# Altium footprint library 1000uF_100V_18x41mm.PcbLib: 1 footprints
Each footprint in its own frame and in the unit in brackets; x right, y up, seen from the top. Pads: shape width x height; smd on the part's side, far side on the other; paste and mask are expansions set on the pad; w line width, h text height; cw(c..) or ccw(c..) is an arc to the next point about the centre after c.
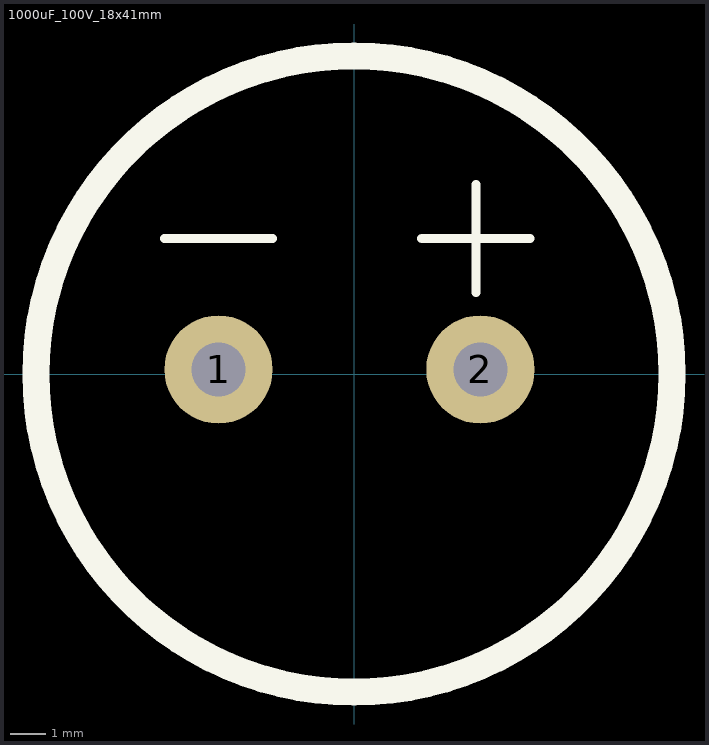
[diagram p0: the footprint, top view; thin cyan lines are the x and y axes]

## 1000uF_100V_18x41mm [mil]
pads (2):
  round 120 hole 60: 1(-150,5) 2(140,5)
Top Overlay:
  circle w30: c0,0 r352.28
  lines w10: -210,150 -90,150 ; 75,150 105,150 165,150 195,150 ; 135,90 135,210
3D body "EST108M100AN3AA.step": height 1670.2, standoff -770.94, extent -369.17,-359.17 359.17,369.17